# Altium integrated library biointerfaceController_pcb.IntLib: 22 symbols
Pins are listed as number, name and electrical type; pins without a type are passive.

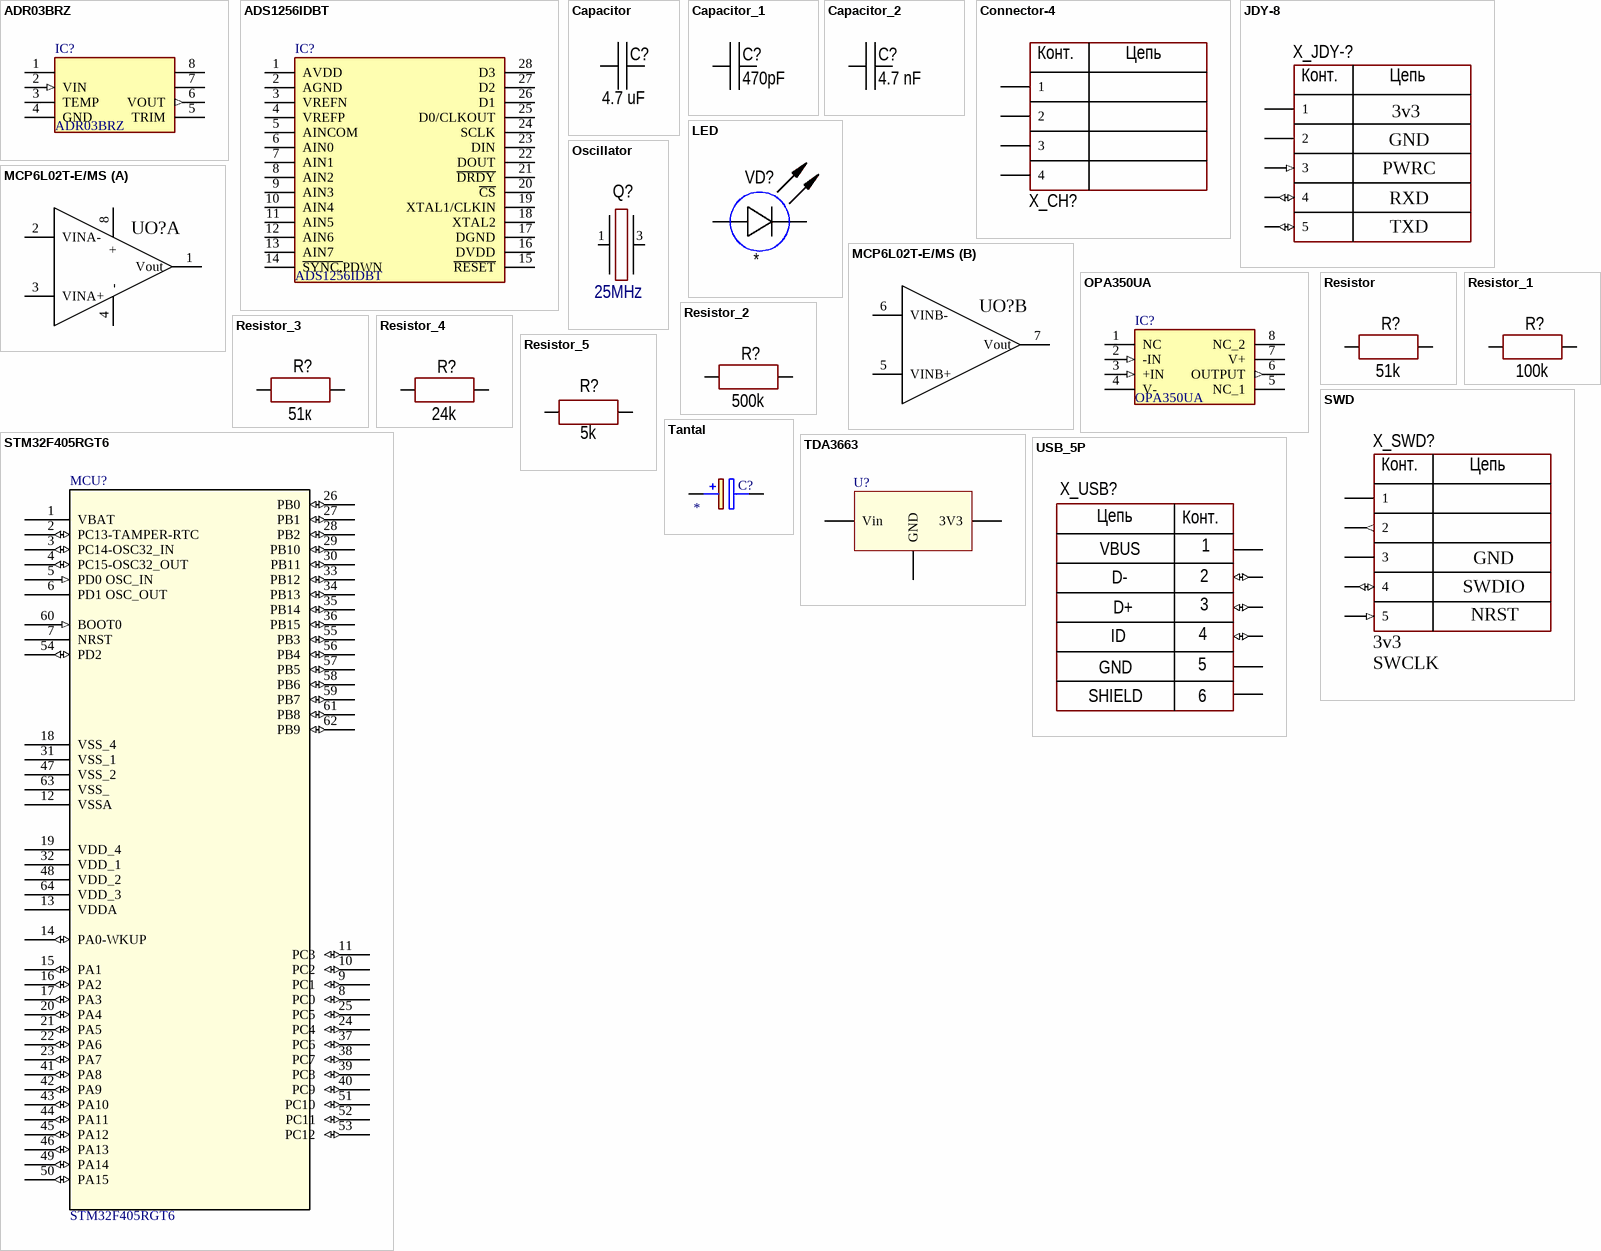
[diagram p0: symbols ADR03BRZ to USB_5P]

## ADR03BRZ
designator IC?
Integrated Circuit; Manufacturer_Name: Analog Devices; Datasheet Link: http://docs-emea.rs-online.com/webdocs/0716/0900766b80716c73.pdf; Height: 1.75mm; Manufacturer_Part_Number: ADR03BRZ; Mouser Part Number: 584-ADR03BRZ; Mouser Price/Stock: https://www.mouser.com/Search/Refine.aspx?Keyword=584-ADR03BRZ; RS Part Number: 5386573P; RS Price/Stock: http://uk.rs-online.com/web/p/products/5386573P
footprint SOIC127P600X175-8N
pins: 1 NIC_1, 2 VIN (in), 3 TEMP, 4 GND (power), 5 TRIM, 6 VOUT (out), 7 NIC_2, 8 NIC_3

## ADS1256IDBT
designator IC?
Integrated Circuit; Manufacturer_Name: Texas Instruments; Datasheet Link: http://componentsearchengine.com/Datasheets/3/ADS1256IDBT.pdf; Height: 2mm; Manufacturer_Part_Number: ADS1256IDBT; Mouser Part Number: 595-ADS1256IDBT; Mouser Price/Stock: https://www.mouser.com/Search/Refine.aspx?Keyword=595-ADS1256IDBT; RS Part Number: 7094658P; RS Price/Stock: http://uk.rs-online.com/web/p/products/7094658P
footprint SOP65P780X200-28N
pins: 1 AVDD, 2 AGND, 3 VREFN, 4 VREFP, 5 AINCOM, 6 AIN0, 7 AIN1, 8 AIN2, 9 AIN3, 10 AIN4, 11 AIN5, 12 AIN6, 13 AIN7, 14 ~{SYNC,}PDWN, 15 ~{RESET}, 16 DVDD, 17 DGND, 18 XTAL2, 19 XTAL1/CLKIN, 20 ~{CS}, 21 ~{DRDY}, 22 DOUT, 23 DIN, 24 SCLK, 25 D0/CLKOUT, 26 D1, 27 D2, 28 D3

## Capacitor
designator C?, comment 4.7 uF
Manufacturer: *; Model: *; HelpURL: *; ComponentKind: *; Value: 4.7 uF
footprint CH0201C
footprint CH0402C
footprint CH0603C (Chip Capacitor, 2-Leads, Body 1,53x0,85mm, IPC Medium Density)
footprint CH0805C
footprint CH1206C (Non polar chip capacitor, size 1206)
footprint CH1210C (Non polar chip capacitor, size 1210)
footprint CH1812C
footprint CH2220C
footprint CAP: B32021
footprint CAP: B32522
footprint CAP: B32654
footprint CAP: B32774
footprint CAP: B32776
footprint CAP: ECW
footprint CAP: EZPE
footprint CAP: B32676
footprint CAP: DEBB33D
footprint CAP: B32674
footprint CAP: B32672L
footprint CAP: B32653A
footprint CAP: B32521
footprint CAP: B32923
pins: 1 (power), 2 (power)

## Capacitor_1
designator C?, comment 470pF
Manufacturer: *; Model: *; HelpURL: *; ComponentKind: *; Value: 470pF
footprint CH0201C
footprint CH0402C
footprint CH0603C (Chip Capacitor, 2-Leads, Body 1,53x0,85mm, IPC Medium Density)
footprint CH0805C
footprint CH1206C (Non polar chip capacitor, size 1206)
footprint CH1210C (Non polar chip capacitor, size 1210)
footprint CH1812C
footprint CH2220C
footprint CAP: B32021
footprint CAP: B32522
footprint CAP: B32654
footprint CAP: B32774
footprint CAP: B32776
footprint CAP: ECW
footprint CAP: EZPE
footprint CAP: B32676
footprint CAP: DEBB33D
footprint CAP: B32674
footprint CAP: B32672L
footprint CAP: B32653A
footprint CAP: B32521
footprint CAP: B32923
pins: 1 (power), 2 (power)

## Capacitor_2
designator C?, comment 4.7 nF
Manufacturer: *; Model: *; HelpURL: *; ComponentKind: *; Value: 4.7 nF
footprint CH0201C
footprint CH0402C
footprint CH0603C (Chip Capacitor, 2-Leads, Body 1,53x0,85mm, IPC Medium Density)
footprint CH0805C
footprint CH1206C (Non polar chip capacitor, size 1206)
footprint CH1210C (Non polar chip capacitor, size 1210)
footprint CH1812C
footprint CH2220C
footprint CAP: B32021
footprint CAP: B32522
footprint CAP: B32654
footprint CAP: B32774
footprint CAP: B32776
footprint CAP: ECW
footprint CAP: EZPE
footprint CAP: B32676
footprint CAP: DEBB33D
footprint CAP: B32674
footprint CAP: B32672L
footprint CAP: B32653A
footprint CAP: B32521
footprint CAP: B32923
pins: 1 (power), 2 (power)

## Connector-4
designator X_CH?  (value not drawn)
Model: *; Manufacturer: *; HelpURL: *; ComponentKind: *
footprint HDRV4W64P0X254_1X4_1016X254X550P
footprint JSTIC_Molex_125
pins: 1, 2, 3 (power), 4 (power)
text: Конт.; Цепь

## JDY-8
designator X_JDY-?, comment Pin1: 3v3  Pin2: GND  Pin3: PWRC  Pin4: RXD  Pin5: TXD  (hidden comment: SWD)
Model: SWD; Manufacturer: *; HelpURL: *; ComponentKind: *
footprint PBS-5
footprint HDRV4W64P0X254_1X5_1016X254X550P
pins: 1 (power) "3V3", 2 (power) "GND", 3 (in) "PWRC", 4 (io) "RXD", 5 (io) "TXD"
text: Конт.; Цепь

## LED
designator VD?
Manufacturer: *; Model: *; HelpURL: *; ComponentKind: *; Value: *
footprint CH0603LB (Chip Capacitor, 2-Leads, Body 1,53x0,85mm, IPC Medium Density)
footprint CH0603LG (Chip Capacitor, 2-Leads, Body 1,53x0,85mm, IPC Medium Density)
footprint CH0603LR (Chip Capacitor, 2-Leads, Body 1,53x0,85mm, IPC Medium Density)
footprint CH0603LY (Chip Capacitor, 2-Leads, Body 1,53x0,85mm, IPC Medium Density)
footprint CH1206LB (SMD Blue Led, size 1206)
footprint CH1206LG (SMD Green Led, size 1206)
footprint CH1206LW (SMD White Led, size 1206)
footprint CH1206LY (SMD Yellow Led, size 1206)
footprint CH0805LB
footprint CH0805LG
footprint CH0805LR
footprint CH0805LY
pins: 1 A, 2 C

## MCP6L02T-E/MS
designator UO?  (value not drawn)
Vendor: Microchip; Built_By: EMA_UL_Team; Manufacturer_Part_Number: MCP6L02T-E/MS; Copyright: Copyright (C) 2018 Accelerated Designs. All rights reserved; RefDes: RefDes; Type: DEV; Value: Value
footprint SOP65P490X110-8N
part A pins: 1 Vout, 2 VINA-, 3 VINA+, 4 - "VSS", 8 + "VDD"
part B pins: 5 VINB+, 6 VINB-, 7 Vout

## OPA350UA
designator IC?
Integrated Circuit; Manufacturer_Name: Texas Instruments; Datasheet Link: http://www.ti.com/lit/ds/symlink/opa350.pdf; Height: 1.75mm; Manufacturer_Part_Number: OPA350UA; Mouser Part Number: 595-OPA350UA; Mouser Price/Stock: https://www.mouser.com/Search/Refine.aspx?Keyword=595-OPA350UA; RS Part Number: 4618790P; RS Price/Stock: http://uk.rs-online.com/web/p/products/4618790P
footprint SOIC127P600X175-8N
pins: 1 NC, 2 -IN (in), 3 +IN (in), 4 V-, 5 NC_1, 6 OUTPUT (out), 7 V+, 8 NC_2

## Oscillator
designator Q?, comment 25MHz
Manufacturer: *; Model: *; HelpURL: *; ComponentKind: *; Value: 25MHz
footprint OSC: 2520
footprint OSC: 3215
footprint OSC: 3225
footprint OSC: 5032
footprint OSC: 5070
footprint OSC: ABM7
footprint OSC: 2016
footprint OSC3225
pins: 1, 3

## Resistor
designator R?, comment 51k
Manufacturer: *; Model: *; HelpURL: *; ComponentKind: *; Value: 51k
footprint CH0201R
footprint CH0402R
footprint CH0603R
footprint CH0805R
footprint CH1206R (Chip Resistor, 2-Leads, Body 3,0x1,5mm, IPC Low Density)
footprint CH2010R
footprint CH2512R
footprint RES: SQP 10W
pins: 1, 2

## Resistor_1
designator R?, comment 100k
Manufacturer: *; Model: *; HelpURL: *; ComponentKind: *; Value: 100k
footprint CH0201R
footprint CH0402R
footprint CH0603R
footprint CH0805R
footprint CH1206R (Chip Resistor, 2-Leads, Body 3,0x1,5mm, IPC Low Density)
footprint CH2010R
footprint CH2512R
footprint RES: SQP 10W
pins: 1, 2

## Resistor_2
designator R?, comment 500k
Manufacturer: *; Model: *; HelpURL: *; ComponentKind: *; Value: 500k
footprint CH0201R
footprint CH0402R
footprint CH0603R
footprint CH0805R
footprint CH1206R (Chip Resistor, 2-Leads, Body 3,0x1,5mm, IPC Low Density)
footprint CH2010R
footprint CH2512R
footprint RES: SQP 10W
pins: 1, 2

## Resistor_3
designator R?, comment 51к
Manufacturer: *; Model: *; HelpURL: *; ComponentKind: *; Value: 51к
footprint CH0201R
footprint CH0402R
footprint CH0603R
footprint CH0805R
footprint CH1206R (Chip Resistor, 2-Leads, Body 3,0x1,5mm, IPC Low Density)
footprint CH2010R
footprint CH2512R
footprint RES: SQP 10W
pins: 1, 2

## Resistor_4
designator R?, comment 24k
Manufacturer: *; Model: *; HelpURL: *; ComponentKind: *; Value: 24k
footprint CH0201R
footprint CH0402R
footprint CH0603R
footprint CH0805R
footprint CH1206R (Chip Resistor, 2-Leads, Body 3,0x1,5mm, IPC Low Density)
footprint CH2010R
footprint CH2512R
footprint RES: SQP 10W
pins: 1, 2

## Resistor_5
designator R?, comment 5k
Manufacturer: *; Model: *; HelpURL: *; ComponentKind: *; Value: *
footprint CH0201R
footprint SMD-0402-RES
footprint CH0603R
footprint CH0805R
footprint CH1206R (Chip Resistor, 2-Leads, Body 3,0x1,5mm, IPC Low Density)
footprint CH2010R
footprint CH2512R
footprint RES: SQP 10W
pins: 1, 2

## STM32F405RGT6
designator MCU?
Manufacture: STMicroelectronics; Memory: 1024 Kb; Manufacturer_Part_Number: STM32F405RGT6; Type: MCU; URL: https://www.st.com/b/content/st_com/en/products/microcontrollers-microprocessors/stm32-32-bit-arm-cortex-mcus/stm32-high-performance-mcus/stm32f4-series/stm32f405-415/stm32f405rg.html#tools-software
footprint LQFP64_L (Thin QFP, 64-Leads, Body 10x10mm, Pitch 0.5mm, IPC High Density)
footprint STM-LQFP64_L (Thin QFP, 64-Leads, Body 10x10mm, Pitch 0.5mm, IPC High Density)
pins: 1 VBAT, 2 PC13-TAMPER-RTC (io), 3 PC14-OSC32_IN (io), 4 PC15-OSC32_OUT (io), 5 PD0 OSC_IN (in), 6 PD1 OSC_OUT, 7 NRST, 8 PC0 (io), 9 PC1 (io), 10 PC2 (io), 11 PC3 (io), 12 VSSA, 13 VDDA, 14 PA0-WKUP (io), 15 PA1 (io), 16 PA2 (io), 17 PA3 (io), 18 VSS_4, 19 VDD_4, 20 PA4 (io), 21 PA5 (io), 22 PA6 (io), 23 PA7 (io), 24 PC4 (io), 25 PC5 (io), 26 PB0 (io), 27 PB1 (io), 28 PB2 (io), 29 PB10 (io), 30 PB11 (io), 31 VSS_1, 32 VDD_1, 33 PB12 (io), 34 PB13 (io), 35 PB14 (io), 36 PB15 (io), 37 PC6 (io), 38 PC7 (io), 39 PC8 (io), 40 PC9 (io), 41 PA8 (io), 42 PA9 (io), 43 PA10 (io), 44 PA11 (io), 45 PA12 (io), 46 PA13 (io), 47 VSS_2, 48 VDD_2, 49 PA14 (io), 50 PA15 (io), 51 PC10 (io), 52 PC11 (io), 53 PC12 (io), 54 PD2 (io), 55 PB3 (io), 56 PB4 (io), 57 PB5 (io), 58 PB6 (io), 59 PB7 (io), 60 BOOT0 (in), 61 PB8 (io), 62 PB9 (io), 63 VSS_, 64 VDD_3

## SWD
designator X_SWD?  Pin1: 3v3  Pin2: SWCLK  Pin3: GND  Pin4: SWDIO  Pin5: NRST  (hidden comment: SWD)
Model: SWD; Manufacturer: *; HelpURL: *; ComponentKind: *
footprint PBS-5
footprint HDRV4W64P0X254_1X5_1016X254X550P
pins: 1 (power) "3v3", 2 (out) "SWCLK", 3 (power) "GND", 4 (io) "SWDIO", 5 (in) "NRST"
text: Конт.; Цепь

## Tantal
designator C?
Capacitor Polarised Tantal; Value: *
footprint TANTAL_A_3216X180N
footprint TANTAL_B_3528X210N
footprint TANTAL_D_7343X310N
footprint TANTAL_C_6032X280N
pins: 1 +, 2 -

## TDA3663
designator U?
Model: TDA3663; Manafacture: *; URL: *
footprint SOT-223-2 (SOT-223/SC-73; 4 Leads; Body 6.7 x 7.3 mm, inc. leads (LxW max))
pins: 1 Vin, 2 GND, 3 3V3, 4 GND hidden

## USB_5P
designator X_USB?, comment USB  (value not drawn)
Manufacturer: *; HelpURL: *; ComponentKind: *; Model: *
footprint micro_USB_A_5P
footprint mini_USB_A_5P
pins: 1 (power) "Vbus", 2 (io) "D-", 3 (io) "D+", 4 (io) "ID", 5 (power) "GND", 6 (power) "SHIELD"
text: Цепь; Конт.; VBUS; D-; D+; ID; GND; SHIELD